# EAGLE library part TEENSY2-C (library teensy2)
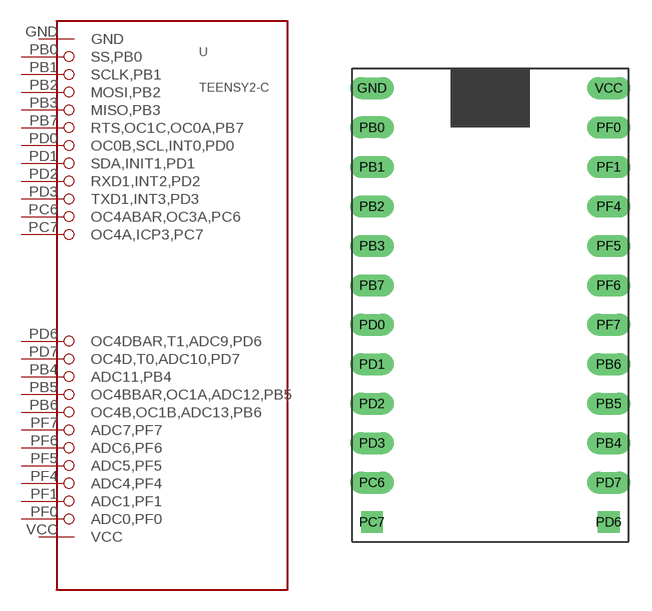
[diagram p0: symbol with the pads of TEENSY2; footprint TEENSY2]

Designator prefix -

## TEENSY2-CC-VERSION  [TEENSY2]
GND  GND  pwr
PB0  SS,PB0
PB1  SCLK,PB1
PB2  MOSI,PB2
PB3  MISO,PB3
PB4  ADC11,PB4
PB5  OC4BBAR,OC1A,ADC12,PB5
PB6  OC4B,OC1B,ADC13,PB6
PB7  RTS,OC1C,OC0A,PB7
PC6  OC4ABAR,OC3A,PC6
PC7  OC4A,ICP3,PC7
PD0  OC0B,SCL,INT0,PD0
PD1  SDA,INIT1,PD1
PD2  RXD1,INT2,PD2
PD3  TXD1,INT3,PD3
PD6  OC4DBAR,T1,ADC9,PD6
PD7  OC4D,T0,ADC10,PD7
PF0  ADC0,PF0
PF1  ADC1,PF1
PF4  ADC4,PF4
PF5  ADC5,PF5
PF6  ADC6,PF6
PF7  ADC7,PF7
VCC  VCC  pwr

## Footprint TEENSY2 (pad centres in mm)
http://pjrc.com/teensy/index.html
drill 0.9 long: GND -7.62,16.51; PB0 -7.62,13.97; PB1 -7.62,11.43; PB2 -7.62,8.89; PB3 -7.62,6.35; PB4 7.62,-6.35; PB5 7.62,-3.81; PB6 7.62,-1.27; PB7 -7.62,3.81; PC6 -7.62,-8.89; PD0 -7.62,1.27; PD1 -7.62,-1.27; PD2 -7.62,-3.81; PD3 -7.62,-6.35; PD7 7.62,-8.89; PF0 7.62,13.97; PF1 7.62,11.43; PF4 7.62,8.89; PF5 7.62,6.35; PF6 7.62,3.81; PF7 7.62,1.27; VCC 7.62,16.51
drill 0.9 square: PC7 -7.62,-11.43; PD6 7.62,-11.43